# Altium schematic symbol library ICs.SchLib: 1 symbol
Pins are listed as number, name and electrical type; pins without a type are passive.

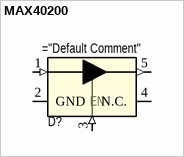
[diagram p0: symbol MAX40200]

## MAX40200
designator D?
IC IDEAL DIODE; Manufacturer: Analog Devices Inc./Maxim Integrated; Default Comment: MAX40203AUK+T; Power Dissipation: * W; Rated Voltage: 1.2 V ~ 5.5 V; Rated Current: 1 A; Tolerance: * %; Other: OR Controller Source Selector Switch P-Channel 1:1 SOT-23-5; Operating Temperature: -40 °C to +125 °C; Type: diode; HelpURL: https://www.digikey.com/en/products/detail/analog-devices-inc-maxim-integrated/MAX40203AUK-T/10447227; Rated Power: * W; Value: *; Summary: ="Type"+" "+"Part Number"+" "+"Manufacturer"+" "+"Value"+" "+"Tolerance"+" "+"Operating Temperature"+" "+"Case"+" "+"Power Dissipation"+" "+"Rated Current"+" "+"Rated Power"+" "+"Rated Voltage"+" "+"Other"; Assembly: *; Case: SOT-23-5; Part Number: MAX40203AUK+T
pins: 1 VDD (in), 2 GND, 3 EN (in), 4 N.C., 5 OUT (out)